# Altium integrated library NSC Voltage Reference.IntLib: 777 symbols (part 9 of 20)
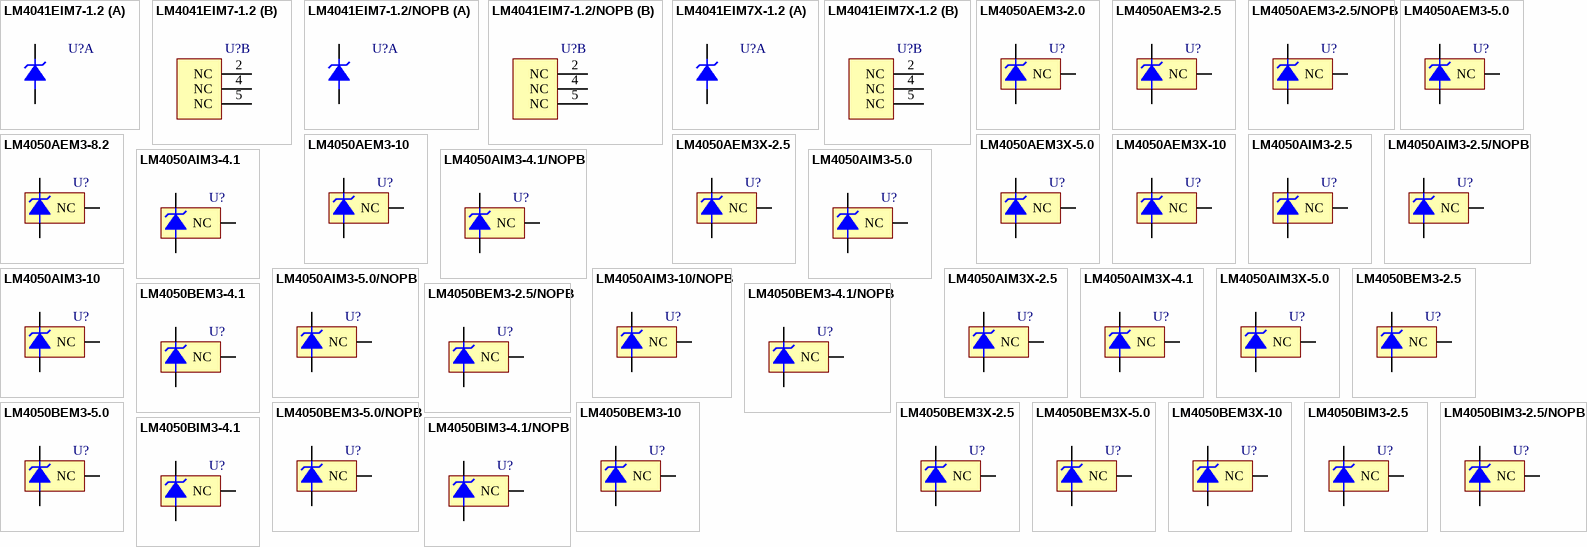
[diagram p28: symbols LM4041EIM7-1.2 to LM4050BIM3-4.1/NOPB]

## LM4050AEM3-2.5/NOPB
designator U?
Precision Micropower Shunt Voltage Reference, 3-pin SOT-23, Pb-Free; PartNumber: LM4050AEM3-2.5/NOPB; Manufacturer: National Semiconductor; PackageTopMarking: RCA*XTT; PowerWise: N; CompType: Voltage Reference IC; Published: 1-Mar-2010; DatasheetVersion: Jul-2004; PackageVersion: revB, Mar-2003; PackageReference: MF03A; Publisher: Altium Limited; PackageDescription: Molded SOT-23, .115 x .051 x .037in Body, 3 Lead, .075 in Pitch; Supplier 1: Digi-Key; Supplier Part Number 1: LM4050AEM3-2.5TR-ND; Supplier 2: Digi-Key; Supplier Part Number 2: LM4050AEM3-2.5CT-ND; Supplier 3: Digi-Key; Supplier Part Number 3: LM4050AEM3-2.5DKR-ND; Supplier 4: Farnell; Supplier Part Number 4: 1674001; RoHS: Y; PinCount: 3; ComponentLink1Description: LM4050 Datasheet; ComponentLink1URL: http://www.national.com/ds/LM/LM4050.pdf; ComponentLink2Description: LM4050 Web Page; ComponentLink2URL: http://www.national.com/pf/LM/LM4050.html; ComponentLink3Description: MF03A Package Page; ComponentLink3URL: http://www.national.com/packaging/folders/mf03a.html
footprint MF03A_N (SOT23, 3-Leads, Body 2.9x1.3mm, Pitch 0.95mm, Lead Span 2.4mm, IPC Medium Density)
footprint MF03A_L (SOT23, 3-Leads, Body 2.9x1.3mm, Pitch 0.95mm, Lead Span 2.4mm, IPC High Density)
footprint MF03A_M (SOT23, 3-Leads, Body 2.9x1.3mm, Pitch 0.95mm, Lead Span 2.4mm, IPC Low Density)
pins: 1 +V, 2 -V, 3 NC

## LM4050AEM3-5.0
designator U?
Precision Micropower Shunt Voltage Reference, 3-pin SOT-23; PartNumber: LM4050AEM3-5.0; Manufacturer: National Semiconductor; PackageTopMarking: REA*XTT; PowerWise: N; CompType: Voltage Reference IC; Published: 4-Dec-2008; DatasheetVersion: Jul-2004; PackageVersion: revB, Mar-2003; PackageReference: MF03A; Publisher: Altium Limited; PackageDescription: Molded SOT-23, .115 x .051 x .037in Body, 3 Lead, .075 in Pitch; RoHS: N; PinCount: 3; ComponentLink1Description: LM4050 Datasheet; ComponentLink1URL: http://www.national.com/ds/LM/LM4050.pdf; ComponentLink2Description: LM4050 Web Page; ComponentLink2URL: http://www.national.com/pf/LM/LM4050.html; ComponentLink3Description: MF03A Package Page; ComponentLink3URL: http://www.national.com/packaging/folders/mf03a.html
footprint MF03A_N (SOT23, 3-Leads, Body 2.9x1.3mm, Pitch 0.95mm, Lead Span 2.4mm, IPC Medium Density)
footprint MF03A_L (SOT23, 3-Leads, Body 2.9x1.3mm, Pitch 0.95mm, Lead Span 2.4mm, IPC High Density)
footprint MF03A_M (SOT23, 3-Leads, Body 2.9x1.3mm, Pitch 0.95mm, Lead Span 2.4mm, IPC Low Density)
pins: 1 +V, 2 -V, 3 NC

## LM4050AEM3-8.2
designator U?
Precision Micropower Shunt Voltage Reference, 3-pin SOT-23; PartNumber: LM4050AEM3-8.2; Manufacturer: National Semiconductor; PackageTopMarking: RFA*XTT; PowerWise: N; CompType: Voltage Reference IC; Published: 4-Dec-2008; DatasheetVersion: Jul-2004; PackageVersion: revB, Mar-2003; PackageReference: MF03A; Publisher: Altium Limited; PackageDescription: Molded SOT-23, .115 x .051 x .037in Body, 3 Lead, .075 in Pitch; Supplier 1: Digi-Key; Supplier Part Number 1: LM4050AEM3-8.2TR-ND; Supplier 2: Digi-Key; Supplier Part Number 2: LM4050AEM3-8.2CT-ND; Supplier 3: Digi-Key; Supplier Part Number 3: LM4050AEM3-8.2DKR-ND; RoHS: N; PinCount: 3; ComponentLink1Description: LM4050 Datasheet; ComponentLink1URL: http://www.national.com/ds/LM/LM4050.pdf; ComponentLink2Description: LM4050 Web Page; ComponentLink2URL: http://www.national.com/pf/LM/LM4050.html; ComponentLink3Description: MF03A Package Page; ComponentLink3URL: http://www.national.com/packaging/folders/mf03a.html
footprint MF03A_N (SOT23, 3-Leads, Body 2.9x1.3mm, Pitch 0.95mm, Lead Span 2.4mm, IPC Medium Density)
footprint MF03A_L (SOT23, 3-Leads, Body 2.9x1.3mm, Pitch 0.95mm, Lead Span 2.4mm, IPC High Density)
footprint MF03A_M (SOT23, 3-Leads, Body 2.9x1.3mm, Pitch 0.95mm, Lead Span 2.4mm, IPC Low Density)
pins: 1 +V, 2 -V, 3 NC

## LM4050AEM3-10
designator U?
Precision Micropower Shunt Voltage Reference, 3-pin SOT-23; PartNumber: LM4050AEM3-10; Manufacturer: National Semiconductor; PackageTopMarking: RGA*XTT; PowerWise: N; CompType: Voltage Reference IC; Published: 4-Dec-2008; DatasheetVersion: Jul-2004; PackageVersion: revB, Mar-2003; PackageReference: MF03A; Publisher: Altium Limited; PackageDescription: Molded SOT-23, .115 x .051 x .037in Body, 3 Lead, .075 in Pitch; RoHS: N; PinCount: 3; ComponentLink1Description: LM4050 Datasheet; ComponentLink1URL: http://www.national.com/ds/LM/LM4050.pdf; ComponentLink2Description: LM4050 Web Page; ComponentLink2URL: http://www.national.com/pf/LM/LM4050.html; ComponentLink3Description: MF03A Package Page; ComponentLink3URL: http://www.national.com/packaging/folders/mf03a.html
footprint MF03A_N (SOT23, 3-Leads, Body 2.9x1.3mm, Pitch 0.95mm, Lead Span 2.4mm, IPC Medium Density)
footprint MF03A_L (SOT23, 3-Leads, Body 2.9x1.3mm, Pitch 0.95mm, Lead Span 2.4mm, IPC High Density)
footprint MF03A_M (SOT23, 3-Leads, Body 2.9x1.3mm, Pitch 0.95mm, Lead Span 2.4mm, IPC Low Density)
pins: 1 +V, 2 -V, 3 NC

## LM4050AEM3X-2.5
designator U?
Precision Micropower Shunt Voltage Reference, 3-pin SOT-23; PartNumber: LM4050AEM3X-2.5; Manufacturer: National Semiconductor; PackageTopMarking: RCA*XTT; PowerWise: N; CompType: Voltage Reference IC; Published: 1-Mar-2010; DatasheetVersion: Jul-2004; PackageVersion: revB, Mar-2003; PackageReference: MF03A; Publisher: Altium Limited; PackageDescription: Molded SOT-23, .115 x .051 x .037in Body, 3 Lead, .075 in Pitch; RoHS: N; PinCount: 3; ComponentLink1Description: LM4050 Datasheet; ComponentLink1URL: http://www.national.com/ds/LM/LM4050.pdf; ComponentLink2Description: LM4050 Web Page; ComponentLink2URL: http://www.national.com/pf/LM/LM4050.html; ComponentLink3Description: MF03A Package Page; ComponentLink3URL: http://www.national.com/packaging/folders/mf03a.html
footprint MF03A_N (SOT23, 3-Leads, Body 2.9x1.3mm, Pitch 0.95mm, Lead Span 2.4mm, IPC Medium Density)
footprint MF03A_L (SOT23, 3-Leads, Body 2.9x1.3mm, Pitch 0.95mm, Lead Span 2.4mm, IPC High Density)
footprint MF03A_M (SOT23, 3-Leads, Body 2.9x1.3mm, Pitch 0.95mm, Lead Span 2.4mm, IPC Low Density)
pins: 1 +V, 2 -V, 3 NC

## LM4050AEM3X-5.0
designator U?
Precision Micropower Shunt Voltage Reference, 3-pin SOT-23; PartNumber: LM4050AEM3X-5.0; Manufacturer: National Semiconductor; PackageTopMarking: REA*XTT; PowerWise: N; CompType: Voltage Reference IC; Published: 1-Mar-2010; DatasheetVersion: Jul-2004; PackageVersion: revB, Mar-2003; PackageReference: MF03A; Publisher: Altium Limited; PackageDescription: Molded SOT-23, .115 x .051 x .037in Body, 3 Lead, .075 in Pitch; RoHS: N; PinCount: 3; ComponentLink1Description: LM4050 Datasheet; ComponentLink1URL: http://www.national.com/ds/LM/LM4050.pdf; ComponentLink2Description: LM4050 Web Page; ComponentLink2URL: http://www.national.com/pf/LM/LM4050.html; ComponentLink3Description: MF03A Package Page; ComponentLink3URL: http://www.national.com/packaging/folders/mf03a.html
footprint MF03A_N (SOT23, 3-Leads, Body 2.9x1.3mm, Pitch 0.95mm, Lead Span 2.4mm, IPC Medium Density)
footprint MF03A_L (SOT23, 3-Leads, Body 2.9x1.3mm, Pitch 0.95mm, Lead Span 2.4mm, IPC High Density)
footprint MF03A_M (SOT23, 3-Leads, Body 2.9x1.3mm, Pitch 0.95mm, Lead Span 2.4mm, IPC Low Density)
pins: 1 +V, 2 -V, 3 NC

## LM4050AEM3X-10
designator U?
Precision Micropower Shunt Voltage Reference, 3-pin SOT-23; PartNumber: LM4050AEM3X-10; Manufacturer: National Semiconductor; PackageTopMarking: RGA*XTT; PowerWise: N; CompType: Voltage Reference IC; Published: 1-Mar-2010; DatasheetVersion: Jul-2004; PackageVersion: revB, Mar-2003; PackageReference: MF03A; Publisher: Altium Limited; PackageDescription: Molded SOT-23, .115 x .051 x .037in Body, 3 Lead, .075 in Pitch; RoHS: N; PinCount: 3; ComponentLink1Description: LM4050 Datasheet; ComponentLink1URL: http://www.national.com/ds/LM/LM4050.pdf; ComponentLink2Description: LM4050 Web Page; ComponentLink2URL: http://www.national.com/pf/LM/LM4050.html; ComponentLink3Description: MF03A Package Page; ComponentLink3URL: http://www.national.com/packaging/folders/mf03a.html
footprint MF03A_N (SOT23, 3-Leads, Body 2.9x1.3mm, Pitch 0.95mm, Lead Span 2.4mm, IPC Medium Density)
footprint MF03A_L (SOT23, 3-Leads, Body 2.9x1.3mm, Pitch 0.95mm, Lead Span 2.4mm, IPC High Density)
footprint MF03A_M (SOT23, 3-Leads, Body 2.9x1.3mm, Pitch 0.95mm, Lead Span 2.4mm, IPC Low Density)
pins: 1 +V, 2 -V, 3 NC

## LM4050AIM3-2.5
designator U?
Precision Micropower Shunt Voltage Reference, 3-pin SOT-23; PartNumber: LM4050AIM3-2.5; Manufacturer: National Semiconductor; PackageTopMarking: RCA*XTT; PowerWise: N; CompType: Voltage Reference IC; Published: 1-Mar-2010; DatasheetVersion: Jul-2004; PackageVersion: revB, Mar-2003; PackageReference: MF03A; Publisher: Altium Limited; PackageDescription: Molded SOT-23, .115 x .051 x .037in Body, 3 Lead, .075 in Pitch; RoHS: N; PinCount: 3; ComponentLink1Description: LM4050 Datasheet; ComponentLink1URL: http://www.national.com/ds/LM/LM4050.pdf; ComponentLink2Description: LM4050 Web Page; ComponentLink2URL: http://www.national.com/pf/LM/LM4050.html; ComponentLink3Description: MF03A Package Page; ComponentLink3URL: http://www.national.com/packaging/folders/mf03a.html
footprint MF03A_N (SOT23, 3-Leads, Body 2.9x1.3mm, Pitch 0.95mm, Lead Span 2.4mm, IPC Medium Density)
footprint MF03A_L (SOT23, 3-Leads, Body 2.9x1.3mm, Pitch 0.95mm, Lead Span 2.4mm, IPC High Density)
footprint MF03A_M (SOT23, 3-Leads, Body 2.9x1.3mm, Pitch 0.95mm, Lead Span 2.4mm, IPC Low Density)
pins: 1 +V, 2 -V, 3 NC

## LM4050AIM3-2.5/NOPB
designator U?
Precision Micropower Shunt Voltage Reference, 3-pin SOT-23, Pb-Free; PartNumber: LM4050AIM3-2.5/NOPB; Manufacturer: National Semiconductor; PackageTopMarking: RCA*XTT; PowerWise: N; CompType: Voltage Reference IC; Published: 1-Mar-2010; DatasheetVersion: Jul-2004; PackageVersion: revB, Mar-2003; PackageReference: MF03A; Publisher: Altium Limited; PackageDescription: Molded SOT-23, .115 x .051 x .037in Body, 3 Lead, .075 in Pitch; Supplier 1: Digi-Key; Supplier Part Number 1: LM4050AIM3-2.5TR-ND; Supplier 2: Digi-Key; Supplier Part Number 2: LM4050AIM3-2.5CT-ND; Supplier 3: Digi-Key; Supplier Part Number 3: LM4050AIM3-2.5DKR-ND; Supplier 4: Farnell; Supplier Part Number 4: 1468850; RoHS: Y; PinCount: 3; ComponentLink1Description: LM4050 Datasheet; ComponentLink1URL: http://www.national.com/ds/LM/LM4050.pdf; ComponentLink2Description: LM4050 Web Page; ComponentLink2URL: http://www.national.com/pf/LM/LM4050.html; ComponentLink3Description: MF03A Package Page; ComponentLink3URL: http://www.national.com/packaging/folders/mf03a.html
footprint MF03A_N (SOT23, 3-Leads, Body 2.9x1.3mm, Pitch 0.95mm, Lead Span 2.4mm, IPC Medium Density)
footprint MF03A_L (SOT23, 3-Leads, Body 2.9x1.3mm, Pitch 0.95mm, Lead Span 2.4mm, IPC High Density)
footprint MF03A_M (SOT23, 3-Leads, Body 2.9x1.3mm, Pitch 0.95mm, Lead Span 2.4mm, IPC Low Density)
pins: 1 +V, 2 -V, 3 NC

## LM4050AIM3-4.1
designator U?
Precision Micropower Shunt Voltage Reference, 3-pin SOT-23; PartNumber: LM4050AIM3-4.1; Manufacturer: National Semiconductor; PackageTopMarking: RDA*XTT; PowerWise: N; CompType: Voltage Reference IC; Published: 1-Mar-2010; DatasheetVersion: Jul-2004; PackageVersion: revB, Mar-2003; PackageReference: MF03A; Publisher: Altium Limited; PackageDescription: Molded SOT-23, .115 x .051 x .037in Body, 3 Lead, .075 in Pitch; RoHS: N; PinCount: 3; ComponentLink1Description: LM4050 Datasheet; ComponentLink1URL: http://www.national.com/ds/LM/LM4050.pdf; ComponentLink2Description: LM4050 Web Page; ComponentLink2URL: http://www.national.com/pf/LM/LM4050.html; ComponentLink3Description: MF03A Package Page; ComponentLink3URL: http://www.national.com/packaging/folders/mf03a.html
footprint MF03A_N (SOT23, 3-Leads, Body 2.9x1.3mm, Pitch 0.95mm, Lead Span 2.4mm, IPC Medium Density)
footprint MF03A_L (SOT23, 3-Leads, Body 2.9x1.3mm, Pitch 0.95mm, Lead Span 2.4mm, IPC High Density)
footprint MF03A_M (SOT23, 3-Leads, Body 2.9x1.3mm, Pitch 0.95mm, Lead Span 2.4mm, IPC Low Density)
pins: 1 +V, 2 -V, 3 NC

## LM4050AIM3-4.1/NOPB
designator U?
Precision Micropower Shunt Voltage Reference, 3-pin SOT-23, Pb-Free; PartNumber: LM4050AIM3-4.1/NOPB; Manufacturer: National Semiconductor; PackageTopMarking: RDA*XTT; PowerWise: N; CompType: Voltage Reference IC; Published: 1-Mar-2010; DatasheetVersion: Jul-2004; PackageVersion: revB, Mar-2003; PackageReference: MF03A; Publisher: Altium Limited; PackageDescription: Molded SOT-23, .115 x .051 x .037in Body, 3 Lead, .075 in Pitch; Supplier 1: Digi-Key; Supplier Part Number 1: LM4050AIM3-4.1TR-ND; Supplier 2: Digi-Key; Supplier Part Number 2: LM4050AIM3-4.1CT-ND; Supplier 3: Digi-Key; Supplier Part Number 3: LM4050AIM3-4.1DKR-ND; Supplier 4: Farnell; Supplier Part Number 4: 1468851; RoHS: Y; PinCount: 3; ComponentLink1Description: LM4050 Datasheet; ComponentLink1URL: http://www.national.com/ds/LM/LM4050.pdf; ComponentLink2Description: LM4050 Web Page; ComponentLink2URL: http://www.national.com/pf/LM/LM4050.html; ComponentLink3Description: MF03A Package Page; ComponentLink3URL: http://www.national.com/packaging/folders/mf03a.html
footprint MF03A_N (SOT23, 3-Leads, Body 2.9x1.3mm, Pitch 0.95mm, Lead Span 2.4mm, IPC Medium Density)
footprint MF03A_L (SOT23, 3-Leads, Body 2.9x1.3mm, Pitch 0.95mm, Lead Span 2.4mm, IPC High Density)
footprint MF03A_M (SOT23, 3-Leads, Body 2.9x1.3mm, Pitch 0.95mm, Lead Span 2.4mm, IPC Low Density)
pins: 1 +V, 2 -V, 3 NC

## LM4050AIM3-5.0
designator U?
Precision Micropower Shunt Voltage Reference, 3-pin SOT-23; PartNumber: LM4050AIM3-5.0; Manufacturer: National Semiconductor; PackageTopMarking: REA*XTT; PowerWise: N; CompType: Voltage Reference IC; Published: 1-Mar-2010; DatasheetVersion: Jul-2004; PackageVersion: revB, Mar-2003; PackageReference: MF03A; Publisher: Altium Limited; PackageDescription: Molded SOT-23, .115 x .051 x .037in Body, 3 Lead, .075 in Pitch; Supplier 1: Farnell; Supplier Part Number 1: 1651198; RoHS: N; PinCount: 3; ComponentLink1Description: LM4050 Datasheet; ComponentLink1URL: http://www.national.com/ds/LM/LM4050.pdf; ComponentLink2Description: LM4050 Web Page; ComponentLink2URL: http://www.national.com/pf/LM/LM4050.html; ComponentLink3Description: MF03A Package Page; ComponentLink3URL: http://www.national.com/packaging/folders/mf03a.html
footprint MF03A_N (SOT23, 3-Leads, Body 2.9x1.3mm, Pitch 0.95mm, Lead Span 2.4mm, IPC Medium Density)
footprint MF03A_L (SOT23, 3-Leads, Body 2.9x1.3mm, Pitch 0.95mm, Lead Span 2.4mm, IPC High Density)
footprint MF03A_M (SOT23, 3-Leads, Body 2.9x1.3mm, Pitch 0.95mm, Lead Span 2.4mm, IPC Low Density)
pins: 1 +V, 2 -V, 3 NC

## LM4050AIM3-5.0/NOPB
designator U?
Precision Micropower Shunt Voltage Reference, 3-pin SOT-23, Pb-Free; PartNumber: LM4050AIM3-5.0/NOPB; Manufacturer: National Semiconductor; PackageTopMarking: REA*XTT; PowerWise: N; CompType: Voltage Reference IC; Published: 1-Mar-2010; DatasheetVersion: Jul-2004; PackageVersion: revB, Mar-2003; PackageReference: MF03A; Publisher: Altium Limited; PackageDescription: Molded SOT-23, .115 x .051 x .037in Body, 3 Lead, .075 in Pitch; Supplier 1: Digi-Key; Supplier Part Number 1: LM4050AIM3-5.0TR-ND; Supplier 2: Digi-Key; Supplier Part Number 2: LM4050AIM3-5.0CT-ND; Supplier 3: Digi-Key; Supplier Part Number 3: LM4050AIM3-5.0DKR-ND; Supplier 4: Farnell; Supplier Part Number 4: 1150270; RoHS: Y; PinCount: 3; ComponentLink1Description: LM4050 Datasheet; ComponentLink1URL: http://www.national.com/ds/LM/LM4050.pdf; ComponentLink2Description: LM4050 Web Page; ComponentLink2URL: http://www.national.com/pf/LM/LM4050.html; ComponentLink3Description: MF03A Package Page; ComponentLink3URL: http://www.national.com/packaging/folders/mf03a.html
footprint MF03A_N (SOT23, 3-Leads, Body 2.9x1.3mm, Pitch 0.95mm, Lead Span 2.4mm, IPC Medium Density)
footprint MF03A_L (SOT23, 3-Leads, Body 2.9x1.3mm, Pitch 0.95mm, Lead Span 2.4mm, IPC High Density)
footprint MF03A_M (SOT23, 3-Leads, Body 2.9x1.3mm, Pitch 0.95mm, Lead Span 2.4mm, IPC Low Density)
pins: 1 +V, 2 -V, 3 NC

## LM4050AIM3-10
designator U?
Precision Micropower Shunt Voltage Reference, 3-pin SOT-23; PartNumber: LM4050AIM3-10; Manufacturer: National Semiconductor; PackageTopMarking: RGA*XTT; PowerWise: N; CompType: Voltage Reference IC; Published: 1-Mar-2010; DatasheetVersion: Jul-2004; PackageVersion: revB, Mar-2003; PackageReference: MF03A; Publisher: Altium Limited; PackageDescription: Molded SOT-23, .115 x .051 x .037in Body, 3 Lead, .075 in Pitch; RoHS: N; PinCount: 3; ComponentLink1Description: LM4050 Datasheet; ComponentLink1URL: http://www.national.com/ds/LM/LM4050.pdf; ComponentLink2Description: LM4050 Web Page; ComponentLink2URL: http://www.national.com/pf/LM/LM4050.html; ComponentLink3Description: MF03A Package Page; ComponentLink3URL: http://www.national.com/packaging/folders/mf03a.html
footprint MF03A_N (SOT23, 3-Leads, Body 2.9x1.3mm, Pitch 0.95mm, Lead Span 2.4mm, IPC Medium Density)
footprint MF03A_L (SOT23, 3-Leads, Body 2.9x1.3mm, Pitch 0.95mm, Lead Span 2.4mm, IPC High Density)
footprint MF03A_M (SOT23, 3-Leads, Body 2.9x1.3mm, Pitch 0.95mm, Lead Span 2.4mm, IPC Low Density)
pins: 1 +V, 2 -V, 3 NC

## LM4050AIM3-10/NOPB
designator U?
Precision Micropower Shunt Voltage Reference, 3-pin SOT-23, Pb-Free; PartNumber: LM4050AIM3-10/NOPB; Manufacturer: National Semiconductor; PackageTopMarking: RGA*XTT; PowerWise: N; CompType: Voltage Reference IC; Published: 1-Mar-2010; DatasheetVersion: Jul-2004; PackageVersion: revB, Mar-2003; PackageReference: MF03A; Publisher: Altium Limited; PackageDescription: Molded SOT-23, .115 x .051 x .037in Body, 3 Lead, .075 in Pitch; Supplier 1: Digi-Key; Supplier Part Number 1: LM4050AIM3-10TR-ND; Supplier 2: Digi-Key; Supplier Part Number 2: LM4050AIM3-10CT-ND; Supplier 3: Digi-Key; Supplier Part Number 3: LM4050AIM3-10DKR-ND; Supplier 4: Farnell; Supplier Part Number 4: 1674003; RoHS: Y; PinCount: 3; ComponentLink1Description: LM4050 Datasheet; ComponentLink1URL: http://www.national.com/ds/LM/LM4050.pdf; ComponentLink2Description: LM4050 Web Page; ComponentLink2URL: http://www.national.com/pf/LM/LM4050.html; ComponentLink3Description: MF03A Package Page; ComponentLink3URL: http://www.national.com/packaging/folders/mf03a.html
footprint MF03A_N (SOT23, 3-Leads, Body 2.9x1.3mm, Pitch 0.95mm, Lead Span 2.4mm, IPC Medium Density)
footprint MF03A_L (SOT23, 3-Leads, Body 2.9x1.3mm, Pitch 0.95mm, Lead Span 2.4mm, IPC High Density)
footprint MF03A_M (SOT23, 3-Leads, Body 2.9x1.3mm, Pitch 0.95mm, Lead Span 2.4mm, IPC Low Density)
pins: 1 +V, 2 -V, 3 NC

## LM4050AIM3X-2.5
designator U?
Precision Micropower Shunt Voltage Reference, 3-pin SOT-23; PartNumber: LM4050AIM3X-2.5; Manufacturer: National Semiconductor; PackageTopMarking: RCA*XTT; PowerWise: N; CompType: Voltage Reference IC; Published: 1-Mar-2010; DatasheetVersion: Jul-2004; PackageVersion: revB, Mar-2003; PackageReference: MF03A; Publisher: Altium Limited; PackageDescription: Molded SOT-23, .115 x .051 x .037in Body, 3 Lead, .075 in Pitch; RoHS: N; PinCount: 3; ComponentLink1Description: LM4050 Datasheet; ComponentLink1URL: http://www.national.com/ds/LM/LM4050.pdf; ComponentLink2Description: LM4050 Web Page; ComponentLink2URL: http://www.national.com/pf/LM/LM4050.html; ComponentLink3Description: MF03A Package Page; ComponentLink3URL: http://www.national.com/packaging/folders/mf03a.html
footprint MF03A_N (SOT23, 3-Leads, Body 2.9x1.3mm, Pitch 0.95mm, Lead Span 2.4mm, IPC Medium Density)
footprint MF03A_L (SOT23, 3-Leads, Body 2.9x1.3mm, Pitch 0.95mm, Lead Span 2.4mm, IPC High Density)
footprint MF03A_M (SOT23, 3-Leads, Body 2.9x1.3mm, Pitch 0.95mm, Lead Span 2.4mm, IPC Low Density)
pins: 1 +V, 2 -V, 3 NC

## LM4050AIM3X-4.1
designator U?
Precision Micropower Shunt Voltage Reference, 3-pin SOT-23; PartNumber: LM4050AIM3X-4.1; Manufacturer: National Semiconductor; PackageTopMarking: RDA*XTT; PowerWise: N; CompType: Voltage Reference IC; Published: 1-Mar-2010; DatasheetVersion: Jul-2004; PackageVersion: revB, Mar-2003; PackageReference: MF03A; Publisher: Altium Limited; PackageDescription: Molded SOT-23, .115 x .051 x .037in Body, 3 Lead, .075 in Pitch; RoHS: N; PinCount: 3; ComponentLink1Description: LM4050 Datasheet; ComponentLink1URL: http://www.national.com/ds/LM/LM4050.pdf; ComponentLink2Description: LM4050 Web Page; ComponentLink2URL: http://www.national.com/pf/LM/LM4050.html; ComponentLink3Description: MF03A Package Page; ComponentLink3URL: http://www.national.com/packaging/folders/mf03a.html
footprint MF03A_N (SOT23, 3-Leads, Body 2.9x1.3mm, Pitch 0.95mm, Lead Span 2.4mm, IPC Medium Density)
footprint MF03A_L (SOT23, 3-Leads, Body 2.9x1.3mm, Pitch 0.95mm, Lead Span 2.4mm, IPC High Density)
footprint MF03A_M (SOT23, 3-Leads, Body 2.9x1.3mm, Pitch 0.95mm, Lead Span 2.4mm, IPC Low Density)
pins: 1 +V, 2 -V, 3 NC

## LM4050AIM3X-5.0
designator U?
Precision Micropower Shunt Voltage Reference, 3-pin SOT-23; PartNumber: LM4050AIM3X-5.0; Manufacturer: National Semiconductor; PackageTopMarking: REA*XTT; PowerWise: N; CompType: Voltage Reference IC; Published: 1-Mar-2010; DatasheetVersion: Jul-2004; PackageVersion: revB, Mar-2003; PackageReference: MF03A; Publisher: Altium Limited; PackageDescription: Molded SOT-23, .115 x .051 x .037in Body, 3 Lead, .075 in Pitch; RoHS: N; PinCount: 3; ComponentLink1Description: LM4050 Datasheet; ComponentLink1URL: http://www.national.com/ds/LM/LM4050.pdf; ComponentLink2Description: LM4050 Web Page; ComponentLink2URL: http://www.national.com/pf/LM/LM4050.html; ComponentLink3Description: MF03A Package Page; ComponentLink3URL: http://www.national.com/packaging/folders/mf03a.html
footprint MF03A_N (SOT23, 3-Leads, Body 2.9x1.3mm, Pitch 0.95mm, Lead Span 2.4mm, IPC Medium Density)
footprint MF03A_L (SOT23, 3-Leads, Body 2.9x1.3mm, Pitch 0.95mm, Lead Span 2.4mm, IPC High Density)
footprint MF03A_M (SOT23, 3-Leads, Body 2.9x1.3mm, Pitch 0.95mm, Lead Span 2.4mm, IPC Low Density)
pins: 1 +V, 2 -V, 3 NC

## LM4050BEM3-2.5
designator U?
Precision Micropower Shunt Voltage Reference, 3-pin SOT-23; PartNumber: LM4050BEM3-2.5; Manufacturer: National Semiconductor; PackageTopMarking: RCB*XTT; PowerWise: N; CompType: Voltage Reference IC; Published: 4-Dec-2008; DatasheetVersion: Jul-2004; PackageVersion: revB, Mar-2003; PackageReference: MF03A; Publisher: Altium Limited; PackageDescription: Molded SOT-23, .115 x .051 x .037in Body, 3 Lead, .075 in Pitch; RoHS: N; PinCount: 3; ComponentLink1Description: LM4050 Datasheet; ComponentLink1URL: http://www.national.com/ds/LM/LM4050.pdf; ComponentLink2Description: LM4050 Web Page; ComponentLink2URL: http://www.national.com/pf/LM/LM4050.html; ComponentLink3Description: MF03A Package Page; ComponentLink3URL: http://www.national.com/packaging/folders/mf03a.html
footprint MF03A_N (SOT23, 3-Leads, Body 2.9x1.3mm, Pitch 0.95mm, Lead Span 2.4mm, IPC Medium Density)
footprint MF03A_L (SOT23, 3-Leads, Body 2.9x1.3mm, Pitch 0.95mm, Lead Span 2.4mm, IPC High Density)
footprint MF03A_M (SOT23, 3-Leads, Body 2.9x1.3mm, Pitch 0.95mm, Lead Span 2.4mm, IPC Low Density)
pins: 1 +V, 2 -V, 3 NC

## LM4050BEM3-2.5/NOPB
designator U?
Precision Micropower Shunt Voltage Reference, 3-pin SOT-23, Pb-Free; PartNumber: LM4050BEM3-2.5/NOPB; Manufacturer: National Semiconductor; PackageTopMarking: RCB*XTT; PowerWise: N; CompType: Voltage Reference IC; Published: 1-Mar-2010; DatasheetVersion: Jul-2004; PackageVersion: revB, Mar-2003; PackageReference: MF03A; Publisher: Altium Limited; PackageDescription: Molded SOT-23, .115 x .051 x .037in Body, 3 Lead, .075 in Pitch; Supplier 1: Digi-Key; Supplier Part Number 1: LM4050BEM3-2.5TR-ND; Supplier 2: Digi-Key; Supplier Part Number 2: LM4050BEM3-2.5CT-ND; Supplier 3: Digi-Key; Supplier Part Number 3: LM4050BEM3-2.5DKR-ND; RoHS: Y; PinCount: 3; ComponentLink1Description: LM4050 Datasheet; ComponentLink1URL: http://www.national.com/ds/LM/LM4050.pdf; ComponentLink2Description: LM4050 Web Page; ComponentLink2URL: http://www.national.com/pf/LM/LM4050.html; ComponentLink3Description: MF03A Package Page; ComponentLink3URL: http://www.national.com/packaging/folders/mf03a.html
footprint MF03A_N (SOT23, 3-Leads, Body 2.9x1.3mm, Pitch 0.95mm, Lead Span 2.4mm, IPC Medium Density)
footprint MF03A_L (SOT23, 3-Leads, Body 2.9x1.3mm, Pitch 0.95mm, Lead Span 2.4mm, IPC High Density)
footprint MF03A_M (SOT23, 3-Leads, Body 2.9x1.3mm, Pitch 0.95mm, Lead Span 2.4mm, IPC Low Density)
pins: 1 +V, 2 -V, 3 NC

## LM4050BEM3-4.1
designator U?
Precision Micropower Shunt Voltage Reference, 3-pin SOT-23; PartNumber: LM4050BEM3-4.1; Manufacturer: National Semiconductor; PackageTopMarking: RDB*XTT; PowerWise: N; CompType: Voltage Reference IC; Published: 4-Dec-2008; DatasheetVersion: Jul-2004; PackageVersion: revB, Mar-2003; PackageReference: MF03A; Publisher: Altium Limited; PackageDescription: Molded SOT-23, .115 x .051 x .037in Body, 3 Lead, .075 in Pitch; RoHS: N; PinCount: 3; ComponentLink1Description: LM4050 Datasheet; ComponentLink1URL: http://www.national.com/ds/LM/LM4050.pdf; ComponentLink2Description: LM4050 Web Page; ComponentLink2URL: http://www.national.com/pf/LM/LM4050.html; ComponentLink3Description: MF03A Package Page; ComponentLink3URL: http://www.national.com/packaging/folders/mf03a.html
footprint MF03A_N (SOT23, 3-Leads, Body 2.9x1.3mm, Pitch 0.95mm, Lead Span 2.4mm, IPC Medium Density)
footprint MF03A_L (SOT23, 3-Leads, Body 2.9x1.3mm, Pitch 0.95mm, Lead Span 2.4mm, IPC High Density)
footprint MF03A_M (SOT23, 3-Leads, Body 2.9x1.3mm, Pitch 0.95mm, Lead Span 2.4mm, IPC Low Density)
pins: 1 +V, 2 -V, 3 NC

## LM4050BEM3-4.1/NOPB
designator U?
Precision Micropower Shunt Voltage Reference, 3-pin SOT-23, Pb-Free; PartNumber: LM4050BEM3-4.1/NOPB; Manufacturer: National Semiconductor; PackageTopMarking: RDB*XTT; PowerWise: N; CompType: Voltage Reference IC; Published: 1-Mar-2010; DatasheetVersion: Jul-2004; PackageVersion: revB, Mar-2003; PackageReference: MF03A; Publisher: Altium Limited; PackageDescription: Molded SOT-23, .115 x .051 x .037in Body, 3 Lead, .075 in Pitch; Supplier 1: Digi-Key; Supplier Part Number 1: LM4050BEM3-4.1TR-ND; Supplier 2: Digi-Key; Supplier Part Number 2: LM4050BEM3-4.1CT-ND; Supplier 3: Digi-Key; Supplier Part Number 3: LM4050BEM3-4.1DKR-ND; RoHS: Y; PinCount: 3; ComponentLink1Description: LM4050 Datasheet; ComponentLink1URL: http://www.national.com/ds/LM/LM4050.pdf; ComponentLink2Description: LM4050 Web Page; ComponentLink2URL: http://www.national.com/pf/LM/LM4050.html; ComponentLink3Description: MF03A Package Page; ComponentLink3URL: http://www.national.com/packaging/folders/mf03a.html
footprint MF03A_N (SOT23, 3-Leads, Body 2.9x1.3mm, Pitch 0.95mm, Lead Span 2.4mm, IPC Medium Density)
footprint MF03A_L (SOT23, 3-Leads, Body 2.9x1.3mm, Pitch 0.95mm, Lead Span 2.4mm, IPC High Density)
footprint MF03A_M (SOT23, 3-Leads, Body 2.9x1.3mm, Pitch 0.95mm, Lead Span 2.4mm, IPC Low Density)
pins: 1 +V, 2 -V, 3 NC

## LM4050BEM3-5.0
designator U?
Precision Micropower Shunt Voltage Reference, 3-pin SOT-23; PartNumber: LM4050BEM3-5.0; Manufacturer: National Semiconductor; PackageTopMarking: REB*XTT; PowerWise: N; CompType: Voltage Reference IC; Published: 4-Dec-2008; DatasheetVersion: Jul-2004; PackageVersion: revB, Mar-2003; PackageReference: MF03A; Publisher: Altium Limited; PackageDescription: Molded SOT-23, .115 x .051 x .037in Body, 3 Lead, .075 in Pitch; RoHS: N; PinCount: 3; ComponentLink1Description: LM4050 Datasheet; ComponentLink1URL: http://www.national.com/ds/LM/LM4050.pdf; ComponentLink2Description: LM4050 Web Page; ComponentLink2URL: http://www.national.com/pf/LM/LM4050.html; ComponentLink3Description: MF03A Package Page; ComponentLink3URL: http://www.national.com/packaging/folders/mf03a.html
footprint MF03A_N (SOT23, 3-Leads, Body 2.9x1.3mm, Pitch 0.95mm, Lead Span 2.4mm, IPC Medium Density)
footprint MF03A_L (SOT23, 3-Leads, Body 2.9x1.3mm, Pitch 0.95mm, Lead Span 2.4mm, IPC High Density)
footprint MF03A_M (SOT23, 3-Leads, Body 2.9x1.3mm, Pitch 0.95mm, Lead Span 2.4mm, IPC Low Density)
pins: 1 +V, 2 -V, 3 NC

## LM4050BEM3-5.0/NOPB
designator U?
Precision Micropower Shunt Voltage Reference, 3-pin SOT-23, Pb-Free; PartNumber: LM4050BEM3-5.0/NOPB; Manufacturer: National Semiconductor; PackageTopMarking: REB*XTT; PowerWise: N; CompType: Voltage Reference IC; Published: 1-Mar-2010; DatasheetVersion: Jul-2004; PackageVersion: revB, Mar-2003; PackageReference: MF03A; Publisher: Altium Limited; PackageDescription: Molded SOT-23, .115 x .051 x .037in Body, 3 Lead, .075 in Pitch; Supplier 1: Digi-Key; Supplier Part Number 1: LM4050BEM3-5.0TR-ND; Supplier 2: Digi-Key; Supplier Part Number 2: LM4050BEM3-5.0CT-ND; Supplier 3: Digi-Key; Supplier Part Number 3: LM4050BEM3-5.0DKR-ND; RoHS: Y; PinCount: 3; ComponentLink1Description: LM4050 Datasheet; ComponentLink1URL: http://www.national.com/ds/LM/LM4050.pdf; ComponentLink2Description: LM4050 Web Page; ComponentLink2URL: http://www.national.com/pf/LM/LM4050.html; ComponentLink3Description: MF03A Package Page; ComponentLink3URL: http://www.national.com/packaging/folders/mf03a.html
footprint MF03A_N (SOT23, 3-Leads, Body 2.9x1.3mm, Pitch 0.95mm, Lead Span 2.4mm, IPC Medium Density)
footprint MF03A_L (SOT23, 3-Leads, Body 2.9x1.3mm, Pitch 0.95mm, Lead Span 2.4mm, IPC High Density)
footprint MF03A_M (SOT23, 3-Leads, Body 2.9x1.3mm, Pitch 0.95mm, Lead Span 2.4mm, IPC Low Density)
pins: 1 +V, 2 -V, 3 NC

## LM4050BEM3-10
designator U?
Precision Micropower Shunt Voltage Reference, 3-pin SOT-23; PartNumber: LM4050BEM3-10; Manufacturer: National Semiconductor; PackageTopMarking: RGB*XTT; PowerWise: N; CompType: Voltage Reference IC; Published: 4-Dec-2008; DatasheetVersion: Jul-2004; PackageVersion: revB, Mar-2003; PackageReference: MF03A; Publisher: Altium Limited; PackageDescription: Molded SOT-23, .115 x .051 x .037in Body, 3 Lead, .075 in Pitch; RoHS: N; PinCount: 3; ComponentLink1Description: LM4050 Datasheet; ComponentLink1URL: http://www.national.com/ds/LM/LM4050.pdf; ComponentLink2Description: LM4050 Web Page; ComponentLink2URL: http://www.national.com/pf/LM/LM4050.html; ComponentLink3Description: MF03A Package Page; ComponentLink3URL: http://www.national.com/packaging/folders/mf03a.html
footprint MF03A_N (SOT23, 3-Leads, Body 2.9x1.3mm, Pitch 0.95mm, Lead Span 2.4mm, IPC Medium Density)
footprint MF03A_L (SOT23, 3-Leads, Body 2.9x1.3mm, Pitch 0.95mm, Lead Span 2.4mm, IPC High Density)
footprint MF03A_M (SOT23, 3-Leads, Body 2.9x1.3mm, Pitch 0.95mm, Lead Span 2.4mm, IPC Low Density)
pins: 1 +V, 2 -V, 3 NC

## LM4050BEM3X-2.5
designator U?
Precision Micropower Shunt Voltage Reference, 3-pin SOT-23; PartNumber: LM4050BEM3X-2.5; Manufacturer: National Semiconductor; PackageTopMarking: RCB*XTT; PowerWise: N; CompType: Voltage Reference IC; Published: 1-Mar-2010; DatasheetVersion: Jul-2004; PackageVersion: revB, Mar-2003; PackageReference: MF03A; Publisher: Altium Limited; PackageDescription: Molded SOT-23, .115 x .051 x .037in Body, 3 Lead, .075 in Pitch; RoHS: N; PinCount: 3; ComponentLink1Description: LM4050 Datasheet; ComponentLink1URL: http://www.national.com/ds/LM/LM4050.pdf; ComponentLink2Description: LM4050 Web Page; ComponentLink2URL: http://www.national.com/pf/LM/LM4050.html; ComponentLink3Description: MF03A Package Page; ComponentLink3URL: http://www.national.com/packaging/folders/mf03a.html
footprint MF03A_N (SOT23, 3-Leads, Body 2.9x1.3mm, Pitch 0.95mm, Lead Span 2.4mm, IPC Medium Density)
footprint MF03A_L (SOT23, 3-Leads, Body 2.9x1.3mm, Pitch 0.95mm, Lead Span 2.4mm, IPC High Density)
footprint MF03A_M (SOT23, 3-Leads, Body 2.9x1.3mm, Pitch 0.95mm, Lead Span 2.4mm, IPC Low Density)
pins: 1 +V, 2 -V, 3 NC

## LM4050BEM3X-5.0
designator U?
Precision Micropower Shunt Voltage Reference, 3-pin SOT-23; PartNumber: LM4050BEM3X-5.0; Manufacturer: National Semiconductor; PackageTopMarking: REB*XTT; PowerWise: N; CompType: Voltage Reference IC; Published: 1-Mar-2010; DatasheetVersion: Jul-2004; PackageVersion: revB, Mar-2003; PackageReference: MF03A; Publisher: Altium Limited; PackageDescription: Molded SOT-23, .115 x .051 x .037in Body, 3 Lead, .075 in Pitch; RoHS: N; PinCount: 3; ComponentLink1Description: LM4050 Datasheet; ComponentLink1URL: http://www.national.com/ds/LM/LM4050.pdf; ComponentLink2Description: LM4050 Web Page; ComponentLink2URL: http://www.national.com/pf/LM/LM4050.html; ComponentLink3Description: MF03A Package Page; ComponentLink3URL: http://www.national.com/packaging/folders/mf03a.html
footprint MF03A_N (SOT23, 3-Leads, Body 2.9x1.3mm, Pitch 0.95mm, Lead Span 2.4mm, IPC Medium Density)
footprint MF03A_L (SOT23, 3-Leads, Body 2.9x1.3mm, Pitch 0.95mm, Lead Span 2.4mm, IPC High Density)
footprint MF03A_M (SOT23, 3-Leads, Body 2.9x1.3mm, Pitch 0.95mm, Lead Span 2.4mm, IPC Low Density)
pins: 1 +V, 2 -V, 3 NC

## LM4050BEM3X-10
designator U?
Precision Micropower Shunt Voltage Reference, 3-pin SOT-23; PartNumber: LM4050BEM3X-10; Manufacturer: National Semiconductor; PackageTopMarking: RGB*XTT; PowerWise: N; CompType: Voltage Reference IC; Published: 1-Mar-2010; DatasheetVersion: Jul-2004; PackageVersion: revB, Mar-2003; PackageReference: MF03A; Publisher: Altium Limited; PackageDescription: Molded SOT-23, .115 x .051 x .037in Body, 3 Lead, .075 in Pitch; RoHS: N; PinCount: 3; ComponentLink1Description: LM4050 Datasheet; ComponentLink1URL: http://www.national.com/ds/LM/LM4050.pdf; ComponentLink2Description: LM4050 Web Page; ComponentLink2URL: http://www.national.com/pf/LM/LM4050.html; ComponentLink3Description: MF03A Package Page; ComponentLink3URL: http://www.national.com/packaging/folders/mf03a.html
footprint MF03A_N (SOT23, 3-Leads, Body 2.9x1.3mm, Pitch 0.95mm, Lead Span 2.4mm, IPC Medium Density)
footprint MF03A_L (SOT23, 3-Leads, Body 2.9x1.3mm, Pitch 0.95mm, Lead Span 2.4mm, IPC High Density)
footprint MF03A_M (SOT23, 3-Leads, Body 2.9x1.3mm, Pitch 0.95mm, Lead Span 2.4mm, IPC Low Density)
pins: 1 +V, 2 -V, 3 NC

## LM4050BIM3-2.5
designator U?
Precision Micropower Shunt Voltage Reference, 3-pin SOT-23; PartNumber: LM4050BIM3-2.5; Manufacturer: National Semiconductor; PackageTopMarking: RCB*XTT; PowerWise: N; CompType: Voltage Reference IC; Published: 1-Mar-2010; DatasheetVersion: Jul-2004; PackageVersion: revB, Mar-2003; PackageReference: MF03A; Publisher: Altium Limited; PackageDescription: Molded SOT-23, .115 x .051 x .037in Body, 3 Lead, .075 in Pitch; Supplier 1: Farnell; Supplier Part Number 1: 5396311; RoHS: N; PinCount: 3; ComponentLink1Description: LM4050 Datasheet; ComponentLink1URL: http://www.national.com/ds/LM/LM4050.pdf; ComponentLink2Description: LM4050 Web Page; ComponentLink2URL: http://www.national.com/pf/LM/LM4050.html; ComponentLink3Description: MF03A Package Page; ComponentLink3URL: http://www.national.com/packaging/folders/mf03a.html
footprint MF03A_N (SOT23, 3-Leads, Body 2.9x1.3mm, Pitch 0.95mm, Lead Span 2.4mm, IPC Medium Density)
footprint MF03A_L (SOT23, 3-Leads, Body 2.9x1.3mm, Pitch 0.95mm, Lead Span 2.4mm, IPC High Density)
footprint MF03A_M (SOT23, 3-Leads, Body 2.9x1.3mm, Pitch 0.95mm, Lead Span 2.4mm, IPC Low Density)
pins: 1 +V, 2 -V, 3 NC

## LM4050BIM3-2.5/NOPB
designator U?
Precision Micropower Shunt Voltage Reference, 3-pin SOT-23, Pb-Free; PartNumber: LM4050BIM3-2.5/NOPB; Manufacturer: National Semiconductor; PackageTopMarking: RCB*XTT; PowerWise: N; CompType: Voltage Reference IC; Published: 1-Mar-2010; DatasheetVersion: Jul-2004; PackageVersion: revB, Mar-2003; PackageReference: MF03A; Publisher: Altium Limited; PackageDescription: Molded SOT-23, .115 x .051 x .037in Body, 3 Lead, .075 in Pitch; Supplier 1: Digi-Key; Supplier Part Number 1: LM4050BIM3-2.5TR-ND; Supplier 2: Digi-Key; Supplier Part Number 2: LM4050BIM3-2.5CT-ND; Supplier 3: Digi-Key; Supplier Part Number 3: LM4050BIM3-2.5DKR-ND; Supplier 4: Farnell; Supplier Part Number 4: 1564661; RoHS: Y; PinCount: 3; ComponentLink1Description: LM4050 Datasheet; ComponentLink1URL: http://www.national.com/ds/LM/LM4050.pdf; ComponentLink2Description: LM4050 Web Page; ComponentLink2URL: http://www.national.com/pf/LM/LM4050.html; ComponentLink3Description: MF03A Package Page; ComponentLink3URL: http://www.national.com/packaging/folders/mf03a.html
footprint MF03A_N (SOT23, 3-Leads, Body 2.9x1.3mm, Pitch 0.95mm, Lead Span 2.4mm, IPC Medium Density)
footprint MF03A_L (SOT23, 3-Leads, Body 2.9x1.3mm, Pitch 0.95mm, Lead Span 2.4mm, IPC High Density)
footprint MF03A_M (SOT23, 3-Leads, Body 2.9x1.3mm, Pitch 0.95mm, Lead Span 2.4mm, IPC Low Density)
pins: 1 +V, 2 -V, 3 NC

## LM4050BIM3-4.1
designator U?
Precision Micropower Shunt Voltage Reference, 3-pin SOT-23; PartNumber: LM4050BIM3-4.1; Manufacturer: National Semiconductor; PackageTopMarking: RDB*XTT; PowerWise: N; CompType: Voltage Reference IC; Published: 1-Mar-2010; DatasheetVersion: Jul-2004; PackageVersion: revB, Mar-2003; PackageReference: MF03A; Publisher: Altium Limited; PackageDescription: Molded SOT-23, .115 x .051 x .037in Body, 3 Lead, .075 in Pitch; RoHS: N; PinCount: 3; ComponentLink1Description: LM4050 Datasheet; ComponentLink1URL: http://www.national.com/ds/LM/LM4050.pdf; ComponentLink2Description: LM4050 Web Page; ComponentLink2URL: http://www.national.com/pf/LM/LM4050.html; ComponentLink3Description: MF03A Package Page; ComponentLink3URL: http://www.national.com/packaging/folders/mf03a.html
footprint MF03A_N (SOT23, 3-Leads, Body 2.9x1.3mm, Pitch 0.95mm, Lead Span 2.4mm, IPC Medium Density)
footprint MF03A_L (SOT23, 3-Leads, Body 2.9x1.3mm, Pitch 0.95mm, Lead Span 2.4mm, IPC High Density)
footprint MF03A_M (SOT23, 3-Leads, Body 2.9x1.3mm, Pitch 0.95mm, Lead Span 2.4mm, IPC Low Density)
pins: 1 +V, 2 -V, 3 NC

## LM4050BIM3-4.1/NOPB
designator U?
Precision Micropower Shunt Voltage Reference, 3-pin SOT-23, Pb-Free; PartNumber: LM4050BIM3-4.1/NOPB; Manufacturer: National Semiconductor; PackageTopMarking: RDB*XTT; PowerWise: N; CompType: Voltage Reference IC; Published: 1-Mar-2010; DatasheetVersion: Jul-2004; PackageVersion: revB, Mar-2003; PackageReference: MF03A; Publisher: Altium Limited; PackageDescription: Molded SOT-23, .115 x .051 x .037in Body, 3 Lead, .075 in Pitch; Supplier 1: Digi-Key; Supplier Part Number 1: LM4050BIM3-4.1TR-ND; Supplier 2: Digi-Key; Supplier Part Number 2: LM4050BIM3-4.1CT-ND; Supplier 3: Digi-Key; Supplier Part Number 3: LM4050BIM3-4.1DKR-ND; Supplier 4: Farnell; Supplier Part Number 4: 1468852; RoHS: Y; PinCount: 3; ComponentLink1Description: LM4050 Datasheet; ComponentLink1URL: http://www.national.com/ds/LM/LM4050.pdf; ComponentLink2Description: LM4050 Web Page; ComponentLink2URL: http://www.national.com/pf/LM/LM4050.html; ComponentLink3Description: MF03A Package Page; ComponentLink3URL: http://www.national.com/packaging/folders/mf03a.html
footprint MF03A_N (SOT23, 3-Leads, Body 2.9x1.3mm, Pitch 0.95mm, Lead Span 2.4mm, IPC Medium Density)
footprint MF03A_L (SOT23, 3-Leads, Body 2.9x1.3mm, Pitch 0.95mm, Lead Span 2.4mm, IPC High Density)
footprint MF03A_M (SOT23, 3-Leads, Body 2.9x1.3mm, Pitch 0.95mm, Lead Span 2.4mm, IPC Low Density)
pins: 1 +V, 2 -V, 3 NC

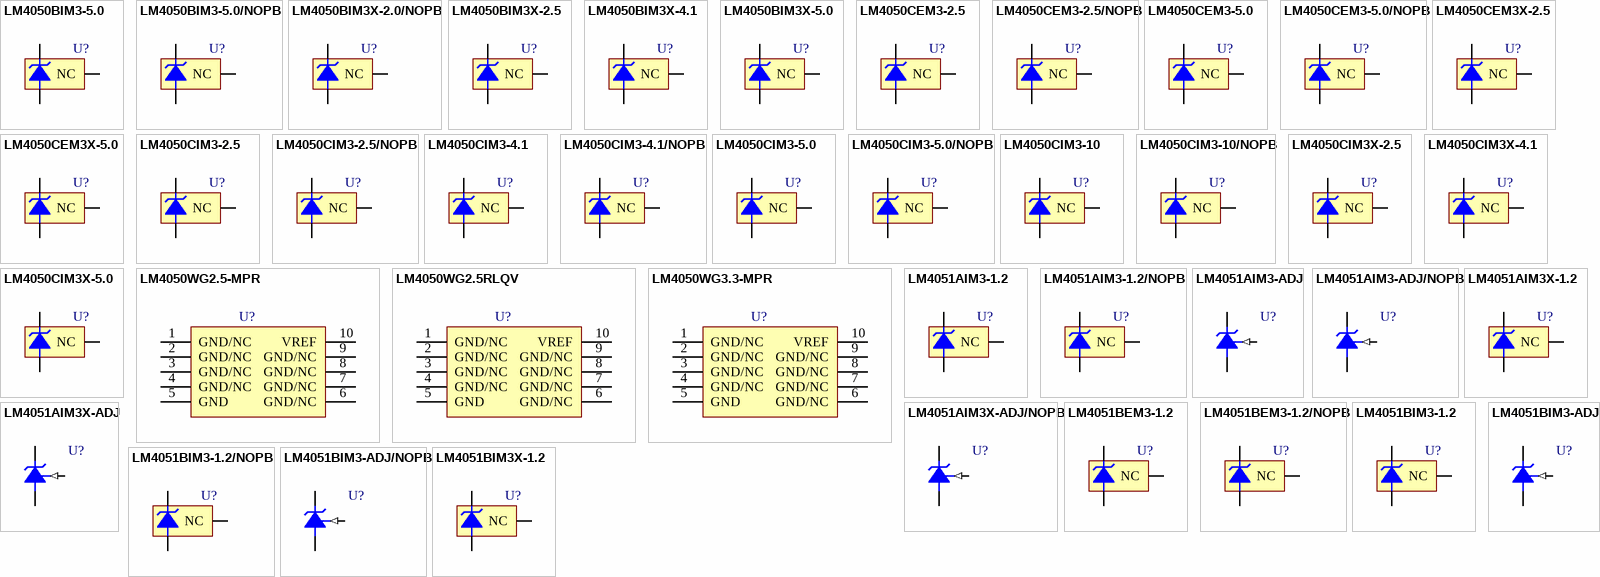
[diagram p10: symbols LM4050BIM3-5.0 to LM4051BIM3X-1.2]

## LM4050BIM3-5.0
designator U?
Precision Micropower Shunt Voltage Reference, 3-pin SOT-23; PartNumber: LM4050BIM3-5.0; Manufacturer: National Semiconductor; PackageTopMarking: REB*XTT; PowerWise: N; CompType: Voltage Reference IC; Published: 1-Mar-2010; DatasheetVersion: Jul-2004; PackageVersion: revB, Mar-2003; PackageReference: MF03A; Publisher: Altium Limited; PackageDescription: Molded SOT-23, .115 x .051 x .037in Body, 3 Lead, .075 in Pitch; RoHS: N; PinCount: 3; ComponentLink1Description: LM4050 Datasheet; ComponentLink1URL: http://www.national.com/ds/LM/LM4050.pdf; ComponentLink2Description: LM4050 Web Page; ComponentLink2URL: http://www.national.com/pf/LM/LM4050.html; ComponentLink3Description: MF03A Package Page; ComponentLink3URL: http://www.national.com/packaging/folders/mf03a.html
footprint MF03A_N (SOT23, 3-Leads, Body 2.9x1.3mm, Pitch 0.95mm, Lead Span 2.4mm, IPC Medium Density)
footprint MF03A_L (SOT23, 3-Leads, Body 2.9x1.3mm, Pitch 0.95mm, Lead Span 2.4mm, IPC High Density)
footprint MF03A_M (SOT23, 3-Leads, Body 2.9x1.3mm, Pitch 0.95mm, Lead Span 2.4mm, IPC Low Density)
pins: 1 +V, 2 -V, 3 NC

## LM4050BIM3-5.0/NOPB
designator U?
Precision Micropower Shunt Voltage Reference, 3-pin SOT-23, Pb-Free; PartNumber: LM4050BIM3-5.0/NOPB; Manufacturer: National Semiconductor; PackageTopMarking: REB*XTT; PowerWise: N; CompType: Voltage Reference IC; Published: 1-Mar-2010; DatasheetVersion: Jul-2004; PackageVersion: revB, Mar-2003; PackageReference: MF03A; Publisher: Altium Limited; PackageDescription: Molded SOT-23, .115 x .051 x .037in Body, 3 Lead, .075 in Pitch; Supplier 1: Digi-Key; Supplier Part Number 1: LM4050BIM3-5.0TR-ND; Supplier 2: Digi-Key; Supplier Part Number 2: LM4050BIM3-5.0CT-ND; Supplier 3: Digi-Key; Supplier Part Number 3: LM4050BIM3-5.0DKR-ND; Supplier 4: Farnell; Supplier Part Number 4: 1468853; RoHS: Y; PinCount: 3; ComponentLink1Description: LM4050 Datasheet; ComponentLink1URL: http://www.national.com/ds/LM/LM4050.pdf; ComponentLink2Description: LM4050 Web Page; ComponentLink2URL: http://www.national.com/pf/LM/LM4050.html; ComponentLink3Description: MF03A Package Page; ComponentLink3URL: http://www.national.com/packaging/folders/mf03a.html
footprint MF03A_N (SOT23, 3-Leads, Body 2.9x1.3mm, Pitch 0.95mm, Lead Span 2.4mm, IPC Medium Density)
footprint MF03A_L (SOT23, 3-Leads, Body 2.9x1.3mm, Pitch 0.95mm, Lead Span 2.4mm, IPC High Density)
footprint MF03A_M (SOT23, 3-Leads, Body 2.9x1.3mm, Pitch 0.95mm, Lead Span 2.4mm, IPC Low Density)
pins: 1 +V, 2 -V, 3 NC

## LM4050BIM3X-2.0/NOPB
designator U?
Precision Micropower Shunt Voltage Reference, 3-pin SOT-23, Pb-Free; PartNumber: LM4050BIM3X-2.0/NOPB; Manufacturer: National Semiconductor; PackageTopMarking: RNB*XTT; PowerWise: N; CompType: Voltage Reference IC; Published: 1-Mar-2010; DatasheetVersion: Jul-2004; PackageVersion: revB, Mar-2003; PackageReference: MF03A; Publisher: Altium Limited; PackageDescription: Molded SOT-23, .115 x .051 x .037in Body, 3 Lead, .075 in Pitch; Supplier 1: Digi-Key; Supplier Part Number 1: LM4050BIM3X-2.0-ND; RoHS: Y; PinCount: 3; ComponentLink1Description: LM4050 Datasheet; ComponentLink1URL: http://www.national.com/ds/LM/LM4050.pdf; ComponentLink2Description: LM4050 Web Page; ComponentLink2URL: http://www.national.com/pf/LM/LM4050.html; ComponentLink3Description: MF03A Package Page; ComponentLink3URL: http://www.national.com/packaging/folders/mf03a.html
footprint MF03A_N (SOT23, 3-Leads, Body 2.9x1.3mm, Pitch 0.95mm, Lead Span 2.4mm, IPC Medium Density)
footprint MF03A_L (SOT23, 3-Leads, Body 2.9x1.3mm, Pitch 0.95mm, Lead Span 2.4mm, IPC High Density)
footprint MF03A_M (SOT23, 3-Leads, Body 2.9x1.3mm, Pitch 0.95mm, Lead Span 2.4mm, IPC Low Density)
pins: 1 +V, 2 -V, 3 NC

## LM4050BIM3X-2.5
designator U?
Precision Micropower Shunt Voltage Reference, 3-pin SOT-23; PartNumber: LM4050BIM3X-2.5; Manufacturer: National Semiconductor; PackageTopMarking: RCB*XTT; PowerWise: N; CompType: Voltage Reference IC; Published: 1-Mar-2010; DatasheetVersion: Jul-2004; PackageVersion: revB, Mar-2003; PackageReference: MF03A; Publisher: Altium Limited; PackageDescription: Molded SOT-23, .115 x .051 x .037in Body, 3 Lead, .075 in Pitch; Supplier 1: Digi-Key; Supplier Part Number 1: LM4050BIM3X-2.5-ND; RoHS: N; PinCount: 3; ComponentLink1Description: LM4050 Datasheet; ComponentLink1URL: http://www.national.com/ds/LM/LM4050.pdf; ComponentLink2Description: LM4050 Web Page; ComponentLink2URL: http://www.national.com/pf/LM/LM4050.html; ComponentLink3Description: MF03A Package Page; ComponentLink3URL: http://www.national.com/packaging/folders/mf03a.html
footprint MF03A_N (SOT23, 3-Leads, Body 2.9x1.3mm, Pitch 0.95mm, Lead Span 2.4mm, IPC Medium Density)
footprint MF03A_L (SOT23, 3-Leads, Body 2.9x1.3mm, Pitch 0.95mm, Lead Span 2.4mm, IPC High Density)
footprint MF03A_M (SOT23, 3-Leads, Body 2.9x1.3mm, Pitch 0.95mm, Lead Span 2.4mm, IPC Low Density)
pins: 1 +V, 2 -V, 3 NC

## LM4050BIM3X-4.1
designator U?
Precision Micropower Shunt Voltage Reference, 3-pin SOT-23; PartNumber: LM4050BIM3X-4.1; Manufacturer: National Semiconductor; PackageTopMarking: RDB*XTT; PowerWise: N; CompType: Voltage Reference IC; Published: 1-Mar-2010; DatasheetVersion: Jul-2004; PackageVersion: revB, Mar-2003; PackageReference: MF03A; Publisher: Altium Limited; PackageDescription: Molded SOT-23, .115 x .051 x .037in Body, 3 Lead, .075 in Pitch; Supplier 1: Digi-Key; Supplier Part Number 1: LM4050BIM3X-4.1-ND; RoHS: N; PinCount: 3; ComponentLink1Description: LM4050 Datasheet; ComponentLink1URL: http://www.national.com/ds/LM/LM4050.pdf; ComponentLink2Description: LM4050 Web Page; ComponentLink2URL: http://www.national.com/pf/LM/LM4050.html; ComponentLink3Description: MF03A Package Page; ComponentLink3URL: http://www.national.com/packaging/folders/mf03a.html
footprint MF03A_N (SOT23, 3-Leads, Body 2.9x1.3mm, Pitch 0.95mm, Lead Span 2.4mm, IPC Medium Density)
footprint MF03A_L (SOT23, 3-Leads, Body 2.9x1.3mm, Pitch 0.95mm, Lead Span 2.4mm, IPC High Density)
footprint MF03A_M (SOT23, 3-Leads, Body 2.9x1.3mm, Pitch 0.95mm, Lead Span 2.4mm, IPC Low Density)
pins: 1 +V, 2 -V, 3 NC

## LM4050BIM3X-5.0
designator U?
Precision Micropower Shunt Voltage Reference, 3-pin SOT-23; PartNumber: LM4050BIM3X-5.0; Manufacturer: National Semiconductor; PackageTopMarking: REB*XTT; PowerWise: N; CompType: Voltage Reference IC; Published: 1-Mar-2010; DatasheetVersion: Jul-2004; PackageVersion: revB, Mar-2003; PackageReference: MF03A; Publisher: Altium Limited; PackageDescription: Molded SOT-23, .115 x .051 x .037in Body, 3 Lead, .075 in Pitch; Supplier 1: Digi-Key; Supplier Part Number 1: LM4050BIM3X-5.0-ND; RoHS: N; PinCount: 3; ComponentLink1Description: LM4050 Datasheet; ComponentLink1URL: http://www.national.com/ds/LM/LM4050.pdf; ComponentLink2Description: LM4050 Web Page; ComponentLink2URL: http://www.national.com/pf/LM/LM4050.html; ComponentLink3Description: MF03A Package Page; ComponentLink3URL: http://www.national.com/packaging/folders/mf03a.html
footprint MF03A_N (SOT23, 3-Leads, Body 2.9x1.3mm, Pitch 0.95mm, Lead Span 2.4mm, IPC Medium Density)
footprint MF03A_L (SOT23, 3-Leads, Body 2.9x1.3mm, Pitch 0.95mm, Lead Span 2.4mm, IPC High Density)
footprint MF03A_M (SOT23, 3-Leads, Body 2.9x1.3mm, Pitch 0.95mm, Lead Span 2.4mm, IPC Low Density)
pins: 1 +V, 2 -V, 3 NC

## LM4050CEM3-2.5
designator U?
Precision Micropower Shunt Voltage Reference, 3-pin SOT-23; PartNumber: LM4050CEM3-2.5; Manufacturer: National Semiconductor; PackageTopMarking: RCC*XTT; PowerWise: N; CompType: Voltage Reference IC; Published: 4-Dec-2008; DatasheetVersion: Jul-2004; PackageVersion: revB, Mar-2003; PackageReference: MF03A; Publisher: Altium Limited; PackageDescription: Molded SOT-23, .115 x .051 x .037in Body, 3 Lead, .075 in Pitch; RoHS: N; PinCount: 3; ComponentLink1Description: LM4050 Datasheet; ComponentLink1URL: http://www.national.com/ds/LM/LM4050.pdf; ComponentLink2Description: LM4050 Web Page; ComponentLink2URL: http://www.national.com/pf/LM/LM4050.html; ComponentLink3Description: MF03A Package Page; ComponentLink3URL: http://www.national.com/packaging/folders/mf03a.html
footprint MF03A_N (SOT23, 3-Leads, Body 2.9x1.3mm, Pitch 0.95mm, Lead Span 2.4mm, IPC Medium Density)
footprint MF03A_L (SOT23, 3-Leads, Body 2.9x1.3mm, Pitch 0.95mm, Lead Span 2.4mm, IPC High Density)
footprint MF03A_M (SOT23, 3-Leads, Body 2.9x1.3mm, Pitch 0.95mm, Lead Span 2.4mm, IPC Low Density)
pins: 1 +V, 2 -V, 3 NC

## LM4050CEM3-2.5/NOPB
designator U?
Precision Micropower Shunt Voltage Reference, 3-pin SOT-23, Pb-Free; PartNumber: LM4050CEM3-2.5/NOPB; Manufacturer: National Semiconductor; PackageTopMarking: RCC*XTT; PowerWise: N; CompType: Voltage Reference IC; Published: 1-Mar-2010; DatasheetVersion: Jul-2004; PackageVersion: revB, Mar-2003; PackageReference: MF03A; Publisher: Altium Limited; PackageDescription: Molded SOT-23, .115 x .051 x .037in Body, 3 Lead, .075 in Pitch; Supplier 1: Digi-Key; Supplier Part Number 1: LM4050CEM3-2.5TR-ND; Supplier 2: Digi-Key; Supplier Part Number 2: LM4050CEM3-2.5CT-ND; Supplier 3: Digi-Key; Supplier Part Number 3: LM4050CEM3-2.5DKR-ND; RoHS: Y; PinCount: 3; ComponentLink1Description: LM4050 Datasheet; ComponentLink1URL: http://www.national.com/ds/LM/LM4050.pdf; ComponentLink2Description: LM4050 Web Page; ComponentLink2URL: http://www.national.com/pf/LM/LM4050.html; ComponentLink3Description: MF03A Package Page; ComponentLink3URL: http://www.national.com/packaging/folders/mf03a.html
footprint MF03A_N (SOT23, 3-Leads, Body 2.9x1.3mm, Pitch 0.95mm, Lead Span 2.4mm, IPC Medium Density)
footprint MF03A_L (SOT23, 3-Leads, Body 2.9x1.3mm, Pitch 0.95mm, Lead Span 2.4mm, IPC High Density)
footprint MF03A_M (SOT23, 3-Leads, Body 2.9x1.3mm, Pitch 0.95mm, Lead Span 2.4mm, IPC Low Density)
pins: 1 +V, 2 -V, 3 NC